# Altium footprint library UJ32CHGSMTTR.PcbLib: 1 footprints
Each footprint in its own frame and in the unit in brackets; x right, y up, seen from the top. Pads: shape width x height; smd on the part's side, far side on the other; paste and mask are expansions set on the pad; w line width, h text height; cw(c..) or ccw(c..) is an arc to the next point about the centre after c.
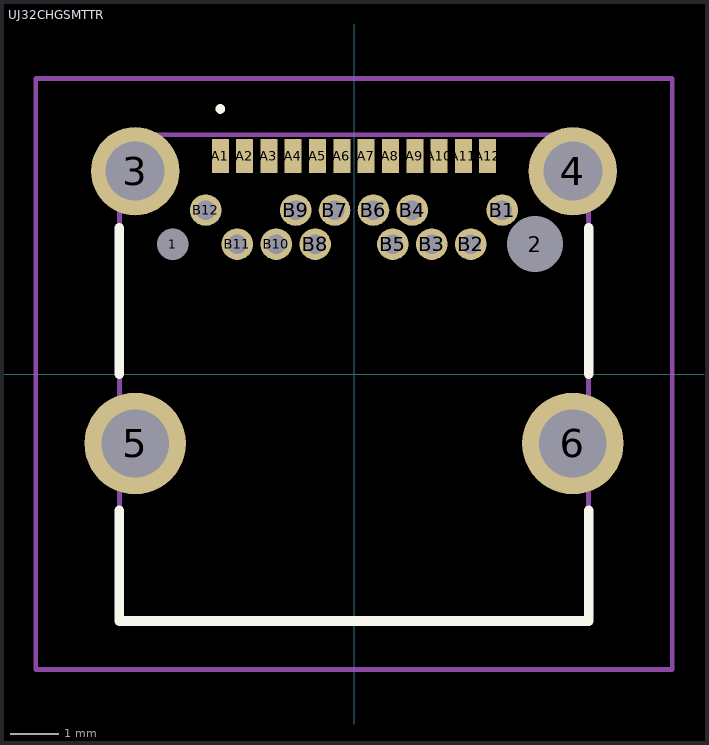
[diagram p0: the footprint, top view; thin cyan lines are the x and y axes]

## UJ32CHGSMTTR [mm]
pads (30):
  round 0.325 hole 0.65 unplated: 1(-3.725,2.671)
  round 0.575 hole 1.15 unplated: 2(3.725,2.671)
  round 1.815 hole 1.21: 3(-4.5,4.171) 4(4.5,4.171)
  round 2.085 hole 1.39: 5(-4.5,-1.429) 6(4.5,-1.429)
  rect 0.35x0.7 smd: A1(-2.75,4.481) A2(-2.25,4.481) A3(-1.75,4.481) A4(-1.25,4.481) A5(-0.75,4.481) A6(-0.25,4.481) A7(0.25,4.481) A8(0.75,4.481) A9(1.25,4.481) A10(1.75,4.481) A11(2.25,4.481) A12(2.75,4.481)
  round 0.65 hole 0.4: B1(3.05,3.371) B2(2.4,2.671) B3(1.6,2.671) B4(1.2,3.371) B5(0.8,2.671) B6(0.4,3.371) B7(-0.4,3.371) B8(-0.8,2.671) B9(-1.2,3.371) B10(-1.6,2.671) B11(-2.4,2.671) B12(-3.05,3.371)
Top Overlay:
  lines w0.1: -2.75,5.4 -2.75,5.4 ; -2.75,5.4 ccw(c-2.75,5.45) -2.75,5.5 ; -2.75,5.4 cw(c-2.75,5.45) -2.75,5.5 ; -2.75,5.5 -2.75,5.5
  lines w0.2: -4.825,-2.8 -4.825,-5.079 4.825,-5.079 4.825,-2.8 ; -4.825,0 -4.825,3 ; 4.825,0 4.825,3
Mechanical 15:
  lines w0.1: -4.825,-5.079 4.825,-5.079 4.825,4.921 -4.825,4.921 -4.825,-5.079
Mechanical 20:
  lines w0.1: -6.543,-6.079 6.543,-6.079 6.543,6.079 -6.543,6.079 -6.543,-6.079